# Altium schematic symbol library debug_connectors.SchLib: 4 symbols
Pins are listed as number, name and electrical type; pins without a type are passive.

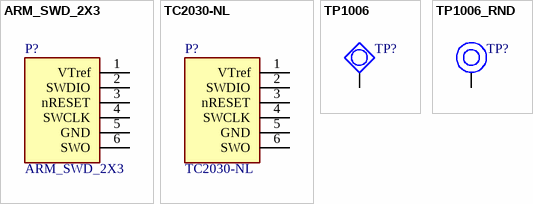
[diagram p0: symbols ARM_SWD_2X3 to TP1006_RND]

## ARM_SWD_2X3
designator P?
Conn Unshrouded Header HDR 6 POS 2.54mm Solder ST Thru-Hole C-GridR Bag; Manufacturer: Molex; Number of Positions: 6; Connector Type: Male Pin; Contact Resistance: 15mR; Row Spacing: 0.1inch; Supplier 1: Digi-Key; Supplier Part Number 1: WM9874-ND; Manufacturer Part Number: 10-89-7060; RoHS: Yes; Category: Headers and Wire Housings; Stock 1: 2154; Pricing 1: 1=0,81000, 10=0,67200, 100=0,55960, 1000=0,44768, 5000=0,39172, 10000=0,37213 (USD); Mount: Through Hole; Housing Color: Black; Housing Material: Polymer; Color: Black; Contact Plating: Gold; Contact Material: Copper Alloy; Min Operating Temperature: -40°C; Max Operating Temperature: 105°C; Termination: Solder; Number of Contacts: 6; Orientation: Straight; Package Quantity: 3000; Packaging: Rail/Tube; Number of Rows: 2; Length: 7.62mm; Pitch: 2.54mm; Contact Mating Length: 0.24inch; Depth: 5.08mm; ComponentLink1URL: https://datasheet.ciiva.com/6879/010897041-sd-6879936.pdf?src-supplier=Digi-Key; ComponentLink1Description: https://datasheet.ciiva.com/6879/010897041-sd-6879936.pdf?src-supplier=Digi-Key; ComponentLink2URL: https://datasheet.ciiva.com/30133/207830010897060-pcb-headers-30133753.pdf?src-supplier=Onlinecomponents.com; ComponentLink2Description: https://datasheet.ciiva.com/30133/207830010897060-pcb-headers-30133753.pdf?src-supplier=Onlinecomponents.com
footprint HEADER-2X03
pins: 1 VTref, 2 SWDIO, 3 nRESET, 4 SWCLK, 5 GND, 6 SWO

## TC2030-NL
designator P?  (no BOM)
footprint TC2030-NL-TOP-BOTTOM
footprint TC2030-NL
pins: 1 VTref, 2 SWDIO, 3 nRESET, 4 SWCLK, 5 GND, 6 SWO

## TP1006
designator TP?  (value not drawn)  (no BOM)
footprint TESTPOINT1006
pins: 1 TP

## TP1006_RND
designator TP?, comment TP1006  (value not drawn)  (no BOM)
footprint TESTPOINT1006
pins: 1 TP